# Altium footprint library pcb_Passive.PcbLib: 22 footprints (part 1 of 2)
Each footprint in its own frame and in the unit in brackets; x right, y up, seen from the top. Pads: shape width x height; smd on the part's side, far side on the other; paste and mask are expansions set on the pad; w line width, h text height; cw(c..) or ccw(c..) is an arc to the next point about the centre after c.
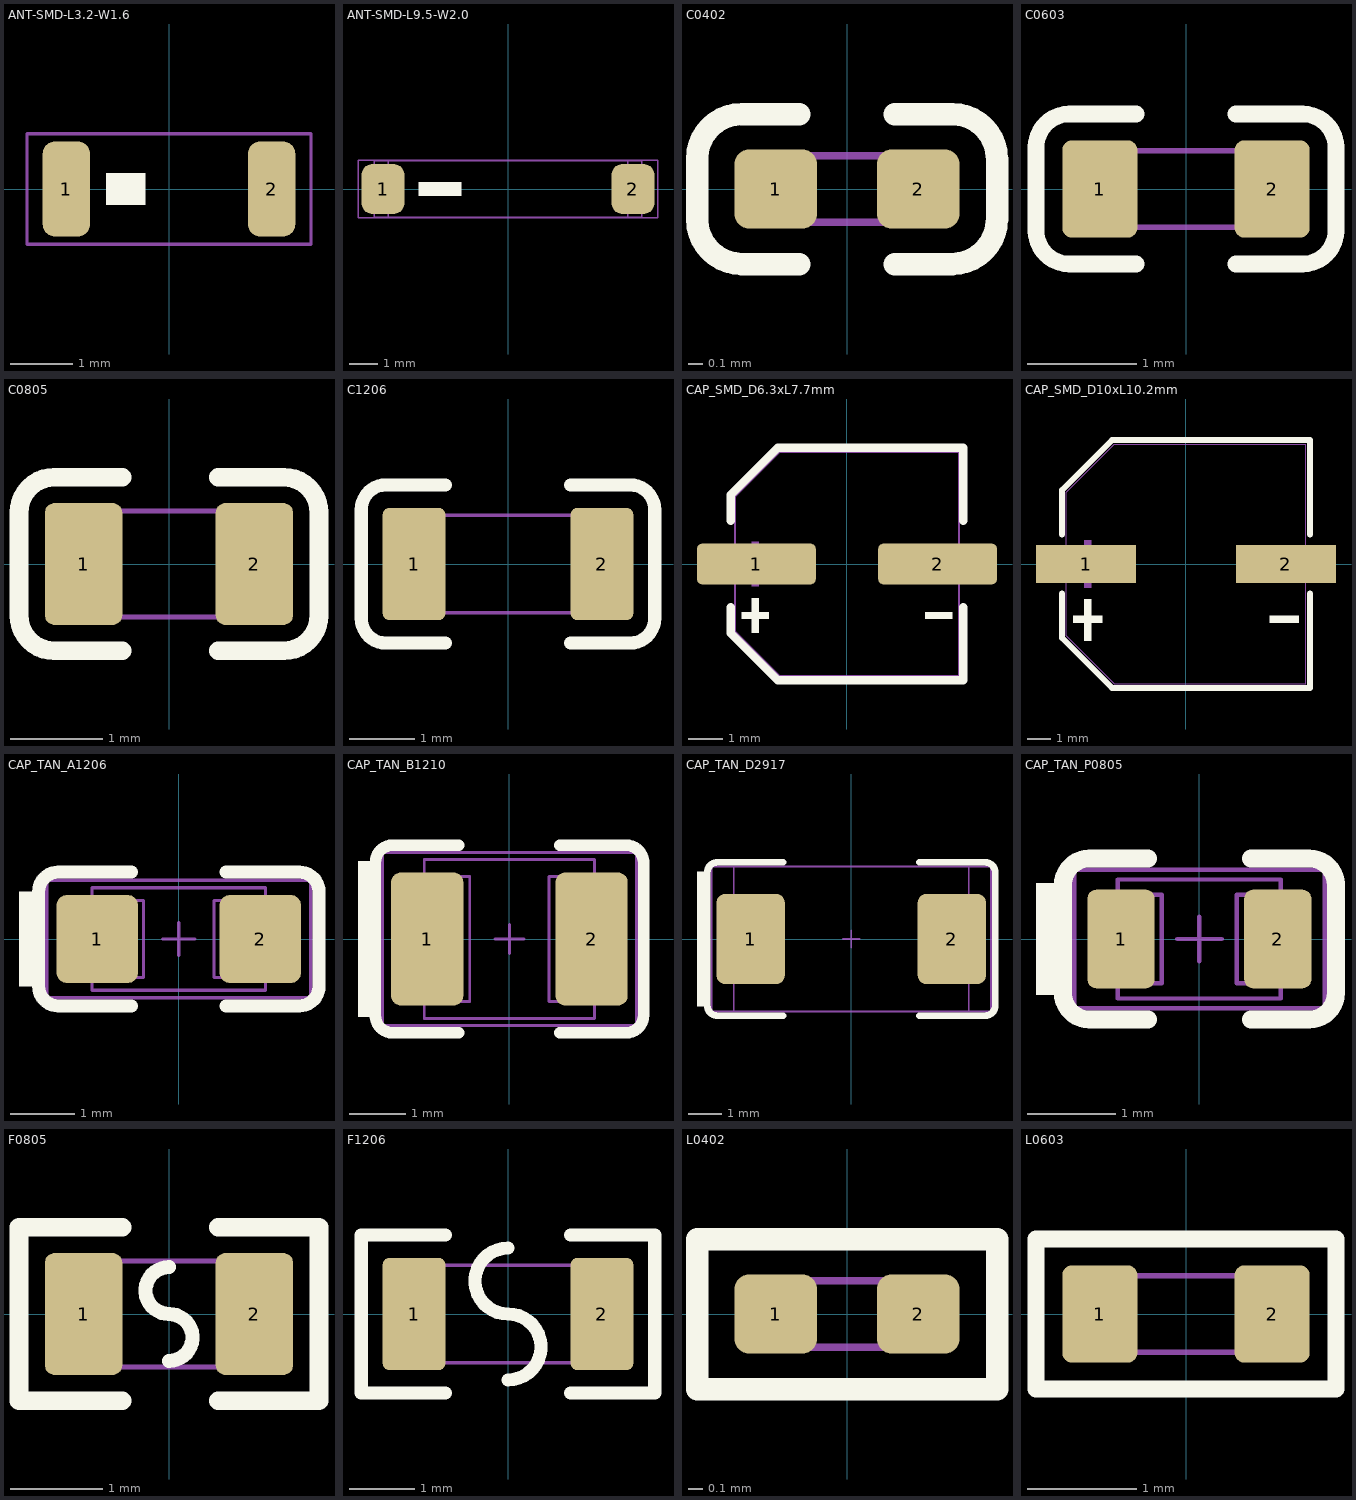
[diagram p0: the footprints below, top view; thin cyan lines are the x and y axes]

## ANT-SMD-L3.2-W1.6 [mil]
height 47.24
pads (2):
  rrect50% 30x60 smd: 1(-65,0) 2(65,0)
Top Overlay:
  rectangle: -40,-10 -15,10
Mechanical 14:
  lines w2: -90,-35 90,-35 90,35 -90,35 -90,-35
Mechanical 16:
  text ".Designator" at 0,0 h39.37
3D body "User Library-2450AT18A100E.STEP": height 53.15, standoff -1.97, extent -64.96,-33.46 64.96,33.47

## ANT-SMD-L9.5-W2.0 [mil]
height 47.24
pads (2):
  rrect50% 60x70 smd: 1(-175,0) 2(175,0)
Top Overlay:
  rectangle: -125,-10 -65,10
Mechanical 13:
  lines w2: -167.32,-39.37 -167.32,39.37 ; 167.32,-39.37 167.32,39.37 ; -187.01,-39.37 187.01,-39.37 187.01,39.37 -187.01,39.37 -187.01,-39.37
Mechanical 14:
  lines w2: -210,-40 210,-40 210,40 -210,40 -210,-40
Mechanical 16:
  text ".Designator" at 0,0 h39.37
3D body "User Library-ANTENNA_WLAN.STEP": height 40.16, standoff -0.79, extent -187.8,-40 187.8,40.31

## C0402 [mil]
pads (2):
  rrect36% 22x21 smd mask+3: 1(-19,0) 2(19,0)
Top Overlay:
  lines w6: -12.68,-20 -28,-20 cw(c-28,-8) -40,-8 -40,8 cw(c-28,8) -28,20 -12.68,20 ; 12.68,-20 28,-20 ccw(c28,-8) 40,-8 40,8 ccw(c28,8) 28,20 12.68,20
Mechanical 11:
  lines w2.01: -18.7,-8.86 -18.7,8.86 18.7,8.86 18.7,-8.86 -18.7,-8.86
Mechanical 16:
  text ".Designator" at 0,0 h39.37
3D body "C0402.stp": height 20.47, standoff 0.79, extent -19.68,-9.84 19.68,9.84

## C0603 [mil]
pads (2):
  rrect25% 27x35 smd mask+3: 1(-31,0) 2(31,0)
Top Overlay:
  lines w6: -18,-27 -42,-27 cw(c-42,-15) -54,-15 -54,15 cw(c-42,15) -42,27 -18,27 ; 18,-27 42,-27 ccw(c42,-15) 54,-15 54,15 ccw(c42,15) 42,27 18,27
Mechanical 11:
  lines w2.01: -29.53,-13.78 29.53,-13.78 29.53,13.78 -29.53,13.78 -29.53,-13.78
Mechanical 16:
  text ".Designator" at 0,0 h39.37
3D body "C0603.stp": height 32.28, standoff 0.79, extent -31.5,-15.75 31.5,15.75

## C0805 [mil]
pads (2):
  rrect24% 33x52 smd mask+3: 1(-36.42,0) 2(36.42,0)
Top Overlay:
  lines w8: -20,-37 -49,-37 cw(c-49,-22) -64,-22 -64,22 cw(c-49,22) -49,37 -20,37 ; 21,-37 49,-37 ccw(c49,-22) 64,-22 64,22 ccw(c49,22) 49,37 21,37
Mechanical 11:
  lines w2.01: -37.4,-22.64 -37.4,22.64 37.4,22.64 37.4,-22.64 -37.4,-22.64
Mechanical 16:
  text ".Designator" at 0,0 h39.37
3D body "C0805.stp": height 50, standoff 0.79, extent -39.37,-24.61 39.37,24.61

## C1206 [mil]
pads (2):
  rrect20% 38x68 smd: 1(-57,0) 2(57,0)
Top Overlay:
  lines w8: -38,-48 -74,-48 cw(c-74,-33) -89,-33 -89,33 cw(c-74,33) -74,48 -38,48 ; 38,-48 74,-48 ccw(c74,-33) 89,-33 89,33 ccw(c74,33) 74,48 38,48
Mechanical 11:
  lines w2.01: -59.06,-29.53 -59.06,29.53 59.06,29.53 59.06,-29.53 -59.06,-29.53
Mechanical 16:
  text ".Designator" at 0,0 h39.37
3D body "C1206.stp": height 63.78, standoff 0.79, extent -62.99,-31.5 62.99,31.5

## CAP_SMD_D6.3xL7.7mm [mm]
pads (2):
  rrect25% 3.5x1.2 smd: 1(-2.67,0) 2(2.67,0)
Top Overlay:
  region: 3.102,-1.419 3.102,-1.617 2.31,-1.617 2.31,-1.419
  region: -3.102,-1.419 -3.102,-1.617 -2.31,-1.617 -2.31,-1.419
  region: -2.805,-1.016 -2.805,-2.032 -2.607,-2.032 -2.607,-1.016
  lines w0.254: -3.429,-1.27 -3.429,-2.032 -2.032,-3.429 3.429,-3.429 3.429,-1.27 ; -3.429,1.27 -3.429,2.032 -2.032,3.429 3.429,3.429 3.429,1.27
Mechanical 6:
  region: 3.102,0.099 3.102,-0.099 2.31,-0.099 2.31,0.099
  region: -3.102,0.099 -3.102,-0.099 -2.31,-0.099 -2.31,0.099
  region: -2.805,0.66 -2.805,-0.66 -2.607,-0.66 -2.607,0.66
Mechanical 15:
  region: -3.8,0.325 -1.4,0.325 -1.4,-0.325 -3.8,-0.325
  region: 1.4,0.325 3.8,0.325 3.8,-0.325 1.4,-0.325
  lines w0.051: -3.3,-1.98 -1.98,-3.3 3.3,-3.3 3.3,3.3 -1.98,3.3 -3.3,1.98 -3.3,-1.98
Mechanical 16:
  text ".Designator" at 0,0 h1
3D body "3D_PCB1_2024-03-28.step": height 7.7, standoff 0, extent -3.5,-3.3 3.5,3.3

## CAP_SMD_D10xL10.2mm [mm] "SMD Cap"
pads (2):
  rect 4.3x1.65 smd: 1(-4.3,0) 2(4.3,0)
Top Overlay:
  region: -4.378,-1.524 -4.378,-3.302 -4.069,-3.302 -4.069,-1.524
  region: -4.841,-2.215 -4.841,-2.524 -3.605,-2.524 -3.605,-2.215
  region: 4.841,-2.215 4.841,-2.524 3.605,-2.524 3.605,-2.215
  lines w0.254: -5.334,-1.27 -5.334,-3.175 -3.175,-5.334 5.334,-5.334 5.334,-1.27 ; -5.334,1.27 -5.334,3.175 -3.175,5.334 5.334,5.334 5.334,1.27
Mechanical 6:
  region: -4.378,1.03 -4.378,-1.03 -4.069,-1.03 -4.069,1.03
  region: -4.841,0.154 -4.841,-0.155 -3.605,-0.155 -3.605,0.154
  region: 4.841,0.154 4.841,-0.155 3.605,-0.155 3.605,0.154
Mechanical 15:
  region: 2.45,0.475 5.65,0.475 5.65,-0.475 2.45,-0.475
  region: -5.65,0.475 -2.45,0.475 -2.45,-0.475 -5.65,-0.475
  lines w0.051: -5.15,-3.09 -5.15,3.09 -3.09,5.15 5.15,5.15 5.15,-5.15 -3.09,-5.15 -5.15,-3.09
Mechanical 16:
  text ".Designator" at 0,0 h1
3D body "3D_PCB1_2024-03-28.step": height 10.58, standoff 0.08, extent -5.75,-5.15 5.55,5.151

## CAP_TAN_A1206 [mil]
height 70.87
pads (2):
  rrect25% 50x54 smd mask+2: 1(-50,0) 2(50,0)
Top Overlay:
  rectangle: -98,-29 -86,29
  lines w8: -29,-41 -74,-41 cw(c-74,-29) -86,-29 -86,29 cw(c-74,29) -74,41 -29,41 ; 29,-41 74,-41 ccw(c74,-29) 86,-29 86,29 ccw(c74,29) 74,41 29,41
Mechanical 13:
  lines w2: -10,0 10,0 ; 0,-10 0,10 ; -63,-23.63 -21.66,-23.63 -21.66,23.62 -63,23.62 -63,-23.63 ; -53.16,-31.5 -53.16,31.5 53.15,31.5 53.15,-31.5 -53.16,-31.5 ; 21.65,-23.62 62.99,-23.62 62.99,23.62 21.65,23.62 21.65,-23.62
Mechanical 14:
  lines w2: -81,-36 -81,36 81,36 81,-36 -81,-36
Mechanical 16:
  text ".Designator" at 0,0 h39.37
3D body "CAPMP3216X180N.STEP": height 70.87, standoff 0, extent -62.99,-31.49 63,31.5

## CAP_TAN_B1210 [mil]
height 82.68
pads (2):
  rrect25% 50x92 smd mask+2: 1(-57,0) 2(57,0)
Top Overlay:
  rectangle: -105,-54 -93,54
  lines w8: -93,-54 -93,53 cw(c-81,53) -81,65 -35,65 ; -93,-53 ccw(c-81,-53) -81,-65 -35,-65 ; 35,-65 81,-65 ccw(c81,-53) 93,-53 93,54 ; 35,65 81,65 cw(c81,53) 93,53
Mechanical 13:
  lines w2: -10,0 10,0 ; 0,-10 0,10 ; -68.89,-43.3 -27.55,-43.3 -27.55,43.31 -68.89,43.31 -68.89,-43.3 ; -59.06,-55.11 -59.06,55.12 59.05,55.12 59.05,-55.11 -59.06,-55.11 ; 27.56,-43.31 27.56,43.31 68.9,43.31 68.9,-43.31 27.56,-43.31
Mechanical 14:
  lines w2: -88,-60 88,-60 88,60 -88,60 -88,-60
Mechanical 16:
  text ".Designator" at 0,0 h39.37
3D body "CAPMP3528X210N.STEP": height 82.68, standoff 0, extent -68.89,-55.11 68.91,55.13

## CAP_TAN_D2917 [mil]
height 122.05
pads (2):
  rrect25% 80x106 smd mask+2: 1(-118,0) 2(118,0)
Top Overlay:
  rectangle: -181,-79 -169,79
  lines w8: -169,-79 -169,78 cw(c-157,78) -157,90 -80,90 ; -169,-78 ccw(c-157,-78) -157,-90 -80,-90 ; 80,-90 157,-90 ccw(c157,-78) 169,-78 169,79 ; 80,90 157,90 cw(c157,78) 169,78
Mechanical 13:
  lines w2: -10,0 10,0 ; 0,-10 0,10 ; -143.7,-47.24 -86.61,-47.24 -86.61,47.24 -143.7,47.24 -143.7,-47.24 ; -137.8,-84.65 -137.8,84.65 137.8,84.65 137.8,-84.65 -137.8,-84.65 ; 86.61,-47.24 86.61,47.24 143.7,47.24 143.7,-47.24 86.61,-47.24
Mechanical 14:
  lines w2: -164,-85 -164,85 164,85 164,-85 -164,-85
Mechanical 16:
  text ".Designator" at 0,0 h39.37
3D body "CAPMP7343X310N.STEP": height 122.05, standoff 0, extent -149.6,-77.75 149.61,77.76

## CAP_TAN_P0805 [mil]
height 59.06
pads (2):
  rrect25% 30x44 smd mask+2: 1(-35,0) 2(35,0)
Top Overlay:
  rectangle: -73,-25 -61,25
  lines w8: -61,-25 -61,24 cw(c-49,24) -49,36 -23,36 ; -61,-24 ccw(c-49,-24) -49,-36 -23,-36 ; 23,-36 49,-36 ccw(c49,-24) 61,-24 61,25 ; 23,36 49,36 cw(c49,24) 61,24
Mechanical 13:
  lines w2: -10,0 10,0 ; 0,-10 0,10 ; -40.35,-19.68 -40.35,19.68 -16.73,19.68 -16.73,-19.68 -40.35,-19.68 ; -36.42,-26.57 36.42,-26.57 36.42,26.57 -36.42,26.57 -36.42,-26.57 ; 16.73,-19.68 16.73,19.68 40.35,19.68 40.35,-19.68 16.73,-19.68
Mechanical 14:
  lines w2: -56,-31 -56,31 56,31 56,-31 -56,-31
Mechanical 16:
  text ".Designator" at 0,0 h39.37
3D body "CAPMP2012X150N.STEP": height 59.06, standoff 0, extent -40.35,-26.57 40.36,26.58

## F0805 [mil]
pads (2):
  rrect24% 33x52 smd mask+3: 1(-36.42,0) 2(36.42,0)
Top Overlay:
  lines w6: 0,-20 ccw(c0,-10) 0,0 cw(c0,10) 0,20
  lines w8: -20,-37 -64,-37 -64,37 -20,37 ; 21,-37 64,-37 64,37 21,37
Mechanical 11:
  lines w2.01: -37.4,-22.64 37.4,-22.64 37.4,22.64 -37.4,22.64 -37.4,-22.64
Mechanical 16:
  text ".Designator" at 0,0 h39.37
3D body "PICOASMDC010S-2.STEP": height 28.77, standoff 2, extent -41.34,-27.56 41.34,27.56

## F1206 [mil]
pads (2):
  rrect20% 38x68 smd: 1(-57,0) 2(57,0)
Top Overlay:
  lines w8: -38,-48 -89,-48 -89,48 -38,48 ; 0,-40 ccw(c0,-20) 0,0 cw(c0,20) 0,40 ; 38,-48 89,-48 89,48 38,48
Mechanical 11:
  lines w2.01: -59.06,-29.53 59.06,-29.53 59.06,29.53 -59.06,29.53 -59.06,-29.53
Mechanical 16:
  text ".Designator" at 0,0 h39.37
3D body "0ZCA0100FF2E.STEP": height 34.73, standoff 1.27, extent -63.98,-32.48 63.98,32.48

## L0402 [mil]
pads (2):
  rrect36% 22x21 smd mask+3: 1(-19,0) 2(19,0)
Top Overlay:
  lines w6: -40,-20 40,-20 40,20 -40,20 -40,-20
Mechanical 11:
  lines w2.01: -18.7,-8.86 -18.7,8.86 18.7,8.86 18.7,-8.86 -18.7,-8.86
Mechanical 16:
  text ".Designator" at 0,0 h39.37
3D body "INDC1005X05L.step": height 19.68, standoff 0, extent -19.68,-9.84 19.69,9.85

## L0603 [mil]
pads (2):
  rrect25% 27x35 smd mask+3: 1(-31,0) 2(31,0)
Top Overlay:
  lines w6: -54,-27 -54,27 54,27 54,-27 -54,-27
Mechanical 11:
  lines w2.01: -29.53,-13.78 -29.53,13.78 29.53,13.78 29.53,-13.78 -29.53,-13.78
Mechanical 16:
  text ".Designator" at 0,0 h39.37
3D body "INDC1608X08L.step": height 31.5, standoff 0, extent -31.5,-15.75 31.5,15.75